# EAGLE library part ARDUINO_NANO_ARDUINO_NANO (library usage_lib)
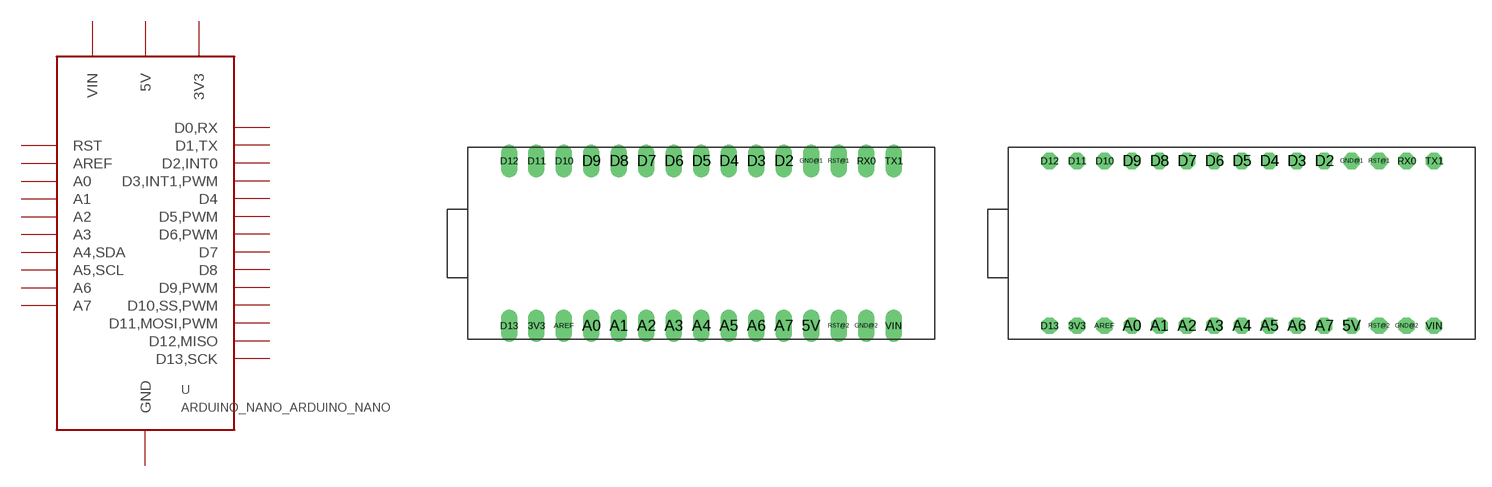
[diagram p0: symbol with the pads of ARDUINO_NANO_ARDUINO_MANO_LONGPAD; footprints ARDUINO_NANO_ARDUINO_MANO_LONGPAD, ARDUINO_NANO_ARDUINO_NANO]

Designator prefix -

## ARDUINO_NANO_ARDUINO_NANOLONGPAD  [ARDUINO_NANO_ARDUINO_MANO_LONGPAD]
3V3  3V3
5V  5V
A0  A0
A1  A1
A2  A2
A3  A3
A4  A4,SDA
A5  A5,SCL
A6  A6
A7  A7
AREF  AREF
D2  D2,INT0
D3  D3,INT1,PWM
D4  D4
D5  D5,PWM
D6  D6,PWM
D7  D7
D8  D8
D9  D9,PWM
D10  D10,SS,PWM
D11  D11,MOSI,PWM
D12  D12,MISO
D13  D13,SCK
GND@1  GND
GND@2  GND
RST@1  RST
RST@2  RST
RX0  D0,RX
TX1  D1,TX
VIN  VIN

## ARDUINO_NANO_ARDUINO_NANOOCT  [ARDUINO_NANO_ARDUINO_NANO]
Pads as for ARDUINO_NANO_ARDUINO_MANO_LONGPAD

## Footprint ARDUINO_NANO_ARDUINO_MANO_LONGPAD (pad centres in mm)
drill 1 long: 3V3 -15.24,-7.62; 5V 10.16,-7.62; A0 -10.16,-7.62; A1 -7.62,-7.62; A2 -5.08,-7.62; A3 -2.54,-7.62; A4 0,-7.62; A5 2.54,-7.62; A6 5.08,-7.62; A7 7.62,-7.62; AREF -12.7,-7.62; D2 7.62,7.62; D3 5.08,7.62; D4 2.54,7.62; D5 0,7.62; D6 -2.54,7.62; D7 -5.08,7.62; D8 -7.62,7.62; D9 -10.16,7.62; D10 -12.7,7.62; D11 -15.24,7.62; D12 -17.78,7.62; D13 -17.78,-7.62; GND@1 10.16,7.62; GND@2 15.24,-7.62; RST@1 12.7,7.62; RST@2 12.7,-7.62; RX0 15.24,7.62; TX1 17.78,7.62; VIN 17.78,-7.62

## Footprint ARDUINO_NANO_ARDUINO_NANO (pad centres in mm)
drill 1 octagon: 3V3 -15.24,-7.62; 5V 10.16,-7.62; A0 -10.16,-7.62; A1 -7.62,-7.62; A2 -5.08,-7.62; A3 -2.54,-7.62; A4 0,-7.62; A5 2.54,-7.62; A6 5.08,-7.62; A7 7.62,-7.62; AREF -12.7,-7.62; D2 7.62,7.62; D3 5.08,7.62; D4 2.54,7.62; D5 0,7.62; D6 -2.54,7.62; D7 -5.08,7.62; D8 -7.62,7.62; D9 -10.16,7.62; D10 -12.7,7.62; D11 -15.24,7.62; D12 -17.78,7.62; D13 -17.78,-7.62; GND@1 10.16,7.62; GND@2 15.24,-7.62; RST@1 12.7,7.62; RST@2 12.7,-7.62; RX0 15.24,7.62; TX1 17.78,7.62; VIN 17.78,-7.62